# Altium schematic symbol library MAGJACK-A70-112-331N126.SchLib: 1 symbol
Pins are listed as number, name and electrical type; pins without a type are passive.

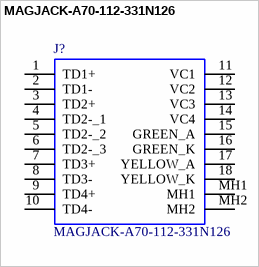
[diagram p0: symbol MAGJACK-A70-112-331N126]

## MAGJACK-A70-112-331N126
designator J?
1 Port RJ45 Magjack Connector Through Hole 10/100 Base-T, AutoMDIX; Manufacturer_Name: Bel Magnetic Solutions; Geometry.Height: 13.3mm; Manufacturer_Part_Number: MAGJACK-A70-112-331N126; Mouser Part Number: *; Mouser Price/Stock: *; Arrow Part Number: *; Arrow Price/Stock: *; Datasheet Link: http://www.link-pp.com/upload/file/20180411/20180411182938293829.pdf
footprint EDAC_A70-112-331N126
pins: 1 TD1+, 2 TD1-, 3 TD2+, 4 TD2-_1, 5 TD2-_2, 6 TD2-_3, 7 TD3+, 8 TD3-, 9 TD4+, 10 TD4-, 11 VC1, 12 VC2, 13 VC3, 14 VC4, 15 GREEN_A, 16 GREEN_K, 17 YELLOW_A, 18 YELLOW_K, MH1, MH2